# Altium schematic symbol library Resistors.SchLib: 442 symbols (part 2 of 3)
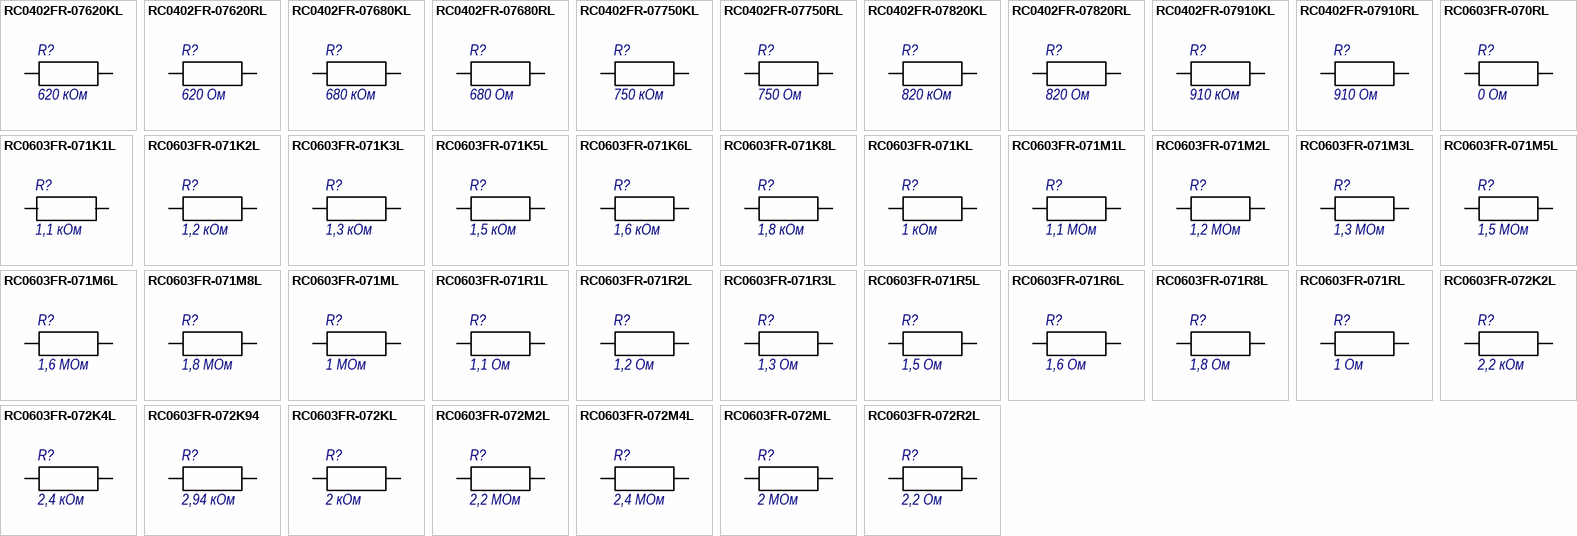
[diagram p12: symbols RC0402FR-07620KL to RC0603FR-072R2L]

## RC0603FR-070RL
designator R?, comment 0 Ом
SMD 0603; 0,1; 1%; 0 Ом; Part Number: RC0603FR-070RL; Manufacturer: Yageo; Power: 0,1; Package: SMD 0603; Persent: 1%; Value: 0 Ом; Category: R
footprint C0603R
pins: 1, 2

## RC0603FR-071K1L
designator R?, comment 1,1 кОм
SMD 0603; 0,1; 1%; 1,1 кОм; Part Number: RC0603FR-071K1L; Manufacturer: Yageo; Power: 0,1; Package: SMD 0603; Persent: 1%; Value: 1,1 кОм; Category: R
footprint C0603R
pins: 1, 2

## RC0603FR-071K2L
designator R?, comment 1,2 кОм
SMD 0603; 0,1; 1%; 1,2 кОм; Part Number: RC0603FR-071K2L; Manufacturer: Yageo; Power: 0,1; Package: SMD 0603; Persent: 1%; Value: 1,2 кОм; Category: R
footprint C0603R
pins: 1, 2

## RC0603FR-071K3L
designator R?, comment 1,3 кОм
SMD 0603; 0,1; 1%; 1,3 кОм; Part Number: RC0603FR-071K3L; Manufacturer: Yageo; Power: 0,1; Package: SMD 0603; Persent: 1%; Value: 1,3 кОм; Category: R
footprint C0603R
pins: 1, 2

## RC0603FR-071K5L
designator R?, comment 1,5 кОм
SMD 0603; 0,1; 1%; 1,5 кОм; Part Number: RC0603FR-071K5L; Manufacturer: Yageo; Power: 0,1; Package: SMD 0603; Persent: 1%; Value: 1,5 кОм; Category: R
footprint C0603R
pins: 1, 2

## RC0603FR-071K6L
designator R?, comment 1,6 кОм
SMD 0603; 0,1; 1%; 1,6 кОм; Part Number: RC0603FR-071K6L; Manufacturer: Yageo; Power: 0,1; Package: SMD 0603; Persent: 1%; Value: 1,6 кОм; Category: R
footprint C0603R
pins: 1, 2

## RC0603FR-071K8L
designator R?, comment 1,8 кОм
SMD 0603; 0,1; 1%; 1,8 кОм; Part Number: RC0603FR-071K8L; Manufacturer: Yageo; Power: 0,1; Package: SMD 0603; Persent: 1%; Value: 1,8 кОм; Category: R
footprint C0603R
pins: 1, 2

## RC0603FR-071KL
designator R?, comment 1 кОм
SMD 0603; 0,1; 1%; 1 кОм; Part Number: RC0603FR-071KL; Manufacturer: Yageo; Power: 0,1; Package: SMD 0603; Persent: 1%; Value: 1 кОм; Category: R
footprint C0603R
pins: 1, 2

## RC0603FR-071M1L
designator R?, comment 1,1 МОм
SMD 0603; 0,1; 1%; 1,1 МОм; Part Number: RC0603FR-071M1L; Manufacturer: Yageo; Power: 0,1; Package: SMD 0603; Persent: 1%; Value: 1,1 МОм; Category: R
footprint C0603R
pins: 1, 2

## RC0603FR-071M2L
designator R?, comment 1,2 МОм
SMD 0603; 0,1; 1%; 1,2 МОм; Part Number: RC0603FR-071M2L; Manufacturer: Yageo; Power: 0,1; Package: SMD 0603; Persent: 1%; Value: 1,2 МОм; Category: R
footprint C0603R
pins: 1, 2

## RC0603FR-071M3L
designator R?, comment 1,3 МОм
SMD 0603; 0,1; 1%; 1,3 МОм; Part Number: RC0603FR-071M3L; Manufacturer: Yageo; Power: 0,1; Package: SMD 0603; Persent: 1%; Value: 1,3 МОм; Category: R
footprint C0603R
pins: 1, 2

## RC0603FR-071M5L
designator R?, comment 1,5 МОм
SMD 0603; 0,1; 1%; 1,5 МОм; Part Number: RC0603FR-071M5L; Manufacturer: Yageo; Power: 0,1; Package: SMD 0603; Persent: 1%; Value: 1,5 МОм; Category: R
footprint C0603R
pins: 1, 2

## RC0603FR-071M6L
designator R?, comment 1,6 МОм
SMD 0603; 0,1; 1%; 1,6 МОм; Part Number: RC0603FR-071M6L; Manufacturer: Yageo; Power: 0,1; Package: SMD 0603; Persent: 1%; Value: 1,6 МОм; Category: R
footprint C0603R
pins: 1, 2

## RC0603FR-071M8L
designator R?, comment 1,8 МОм
SMD 0603; 0,1; 1%; 1,8 МОм; Part Number: RC0603FR-071M8L; Manufacturer: Yageo; Power: 0,1; Package: SMD 0603; Persent: 1%; Value: 1,8 МОм; Category: R
footprint C0603R
pins: 1, 2

## RC0603FR-071ML
designator R?, comment 1 МОм
SMD 0603; 0,1; 1%; 1 МОм; Part Number: RC0603FR-071ML; Manufacturer: Yageo; Power: 0,1; Package: SMD 0603; Persent: 1%; Value: 1 МОм; Category: R
footprint C0603R
pins: 1, 2

## RC0603FR-071R1L
designator R?, comment 1,1 Ом
SMD 0603; 0,1; 1%; 1,1 Ом; Part Number: RC0603FR-071R1L; Manufacturer: Yageo; Power: 0,1; Package: SMD 0603; Persent: 1%; Value: 1,1 Ом; Category: R
footprint C0603R
pins: 1, 2

## RC0603FR-071R2L
designator R?, comment 1,2 Ом
SMD 0603; 0,1; 1%; 1,2 Ом; Part Number: RC0603FR-071R2L; Manufacturer: Yageo; Power: 0,1; Package: SMD 0603; Persent: 1%; Value: 1,2 Ом; Category: R
footprint C0603R
pins: 1, 2

## RC0603FR-071R3L
designator R?, comment 1,3 Ом
SMD 0603; 0,1; 1%; 1,3 Ом; Part Number: RC0603FR-071R3L; Manufacturer: Yageo; Power: 0,1; Package: SMD 0603; Persent: 1%; Value: 1,3 Ом; Category: R
footprint C0603R
pins: 1, 2

## RC0603FR-071R5L
designator R?, comment 1,5 Ом
SMD 0603; 0,1; 1%; 1,5 Ом; Part Number: RC0603FR-071R5L; Manufacturer: Yageo; Power: 0,1; Package: SMD 0603; Persent: 1%; Value: 1,5 Ом; Category: R
footprint C0603R
pins: 1, 2

## RC0603FR-071R6L
designator R?, comment 1,6 Ом
SMD 0603; 0,1; 1%; 1,6 Ом; Part Number: RC0603FR-071R6L; Manufacturer: Yageo; Power: 0,1; Package: SMD 0603; Persent: 1%; Value: 1,6 Ом; Category: R
footprint C0603R
pins: 1, 2

## RC0603FR-071R8L
designator R?, comment 1,8 Ом
SMD 0603; 0,1; 1%; 1,8 Ом; Part Number: RC0603FR-071R8L; Manufacturer: Yageo; Power: 0,1; Package: SMD 0603; Persent: 1%; Value: 1,8 Ом; Category: R
footprint C0603R
pins: 1, 2

## RC0603FR-071RL
designator R?, comment 1 Ом
SMD 0603; 0,1; 1%; 1 Ом; Part Number: RC0603FR-071RL; Manufacturer: Yageo; Power: 0,1; Package: SMD 0603; Persent: 1%; Value: 1 Ом; Category: R
footprint C0603R
pins: 1, 2

## RC0603FR-072K2L
designator R?, comment 2,2 кОм
SMD 0603; 0,1; 1%; 2,2 кОм; Part Number: RC0603FR-072K2L; Manufacturer: Yageo; Power: 0,1; Package: SMD 0603; Persent: 1%; Value: 2,2 кОм; Category: R
footprint C0603R
pins: 1, 2

## RC0603FR-072K4L
designator R?, comment 2,4 кОм
SMD 0603; 0,1; 1%; 2,4 кОм; Part Number: RC0603FR-072K4L; Manufacturer: Yageo; Power: 0,1; Package: SMD 0603; Persent: 1%; Value: 2,4 кОм; Category: R
footprint C0603R
pins: 1, 2

## RC0603FR-072K94
designator R?, comment 2,94 кОм
SMD 0603; 0,1; 1%; 2,94 кОм; Part Number: RC0603FR-072K94; Manufacturer: Yageo; Power: 0,1; Package: SMD 0603; Persent: 1%; Value: 2,94 кОм; Category: R
footprint C0603R
pins: 1, 2

## RC0603FR-072KL
designator R?, comment 2 кОм
SMD 0603; 0,1; 1%; 2 кОм; Part Number: RC0603FR-072KL; Manufacturer: Yageo; Power: 0,1; Package: SMD 0603; Persent: 1%; Value: 2 кОм; Category: R
footprint C0603R
pins: 1, 2

## RC0603FR-072M2L
designator R?, comment 2,2 МОм
SMD 0603; 0,1; 1%; 2,2 МОм; Part Number: RC0603FR-072M2L; Manufacturer: Yageo; Power: 0,1; Package: SMD 0603; Persent: 1%; Value: 2,2 МОм; Category: R
footprint C0603R
pins: 1, 2

## RC0603FR-072M4L
designator R?, comment 2,4 МОм
SMD 0603; 0,1; 1%; 2,4 МОм; Part Number: RC0603FR-072M4L; Manufacturer: Yageo; Power: 0,1; Package: SMD 0603; Persent: 1%; Value: 2,4 МОм; Category: R
footprint C0603R
pins: 1, 2

## RC0603FR-072ML
designator R?, comment 2 МОм
SMD 0603; 0,1; 1%; 2 МОм; Part Number: RC0603FR-072ML; Manufacturer: Yageo; Power: 0,1; Package: SMD 0603; Persent: 1%; Value: 2 МОм; Category: R
footprint C0603R
pins: 1, 2

## RC0603FR-072R2L
designator R?, comment 2,2 Ом
SMD 0603; 0,1; 1%; 2,2 Ом; Part Number: RC0603FR-072R2L; Manufacturer: Yageo; Power: 0,1; Package: SMD 0603; Persent: 1%; Value: 2,2 Ом; Category: R
footprint C0603R
pins: 1, 2

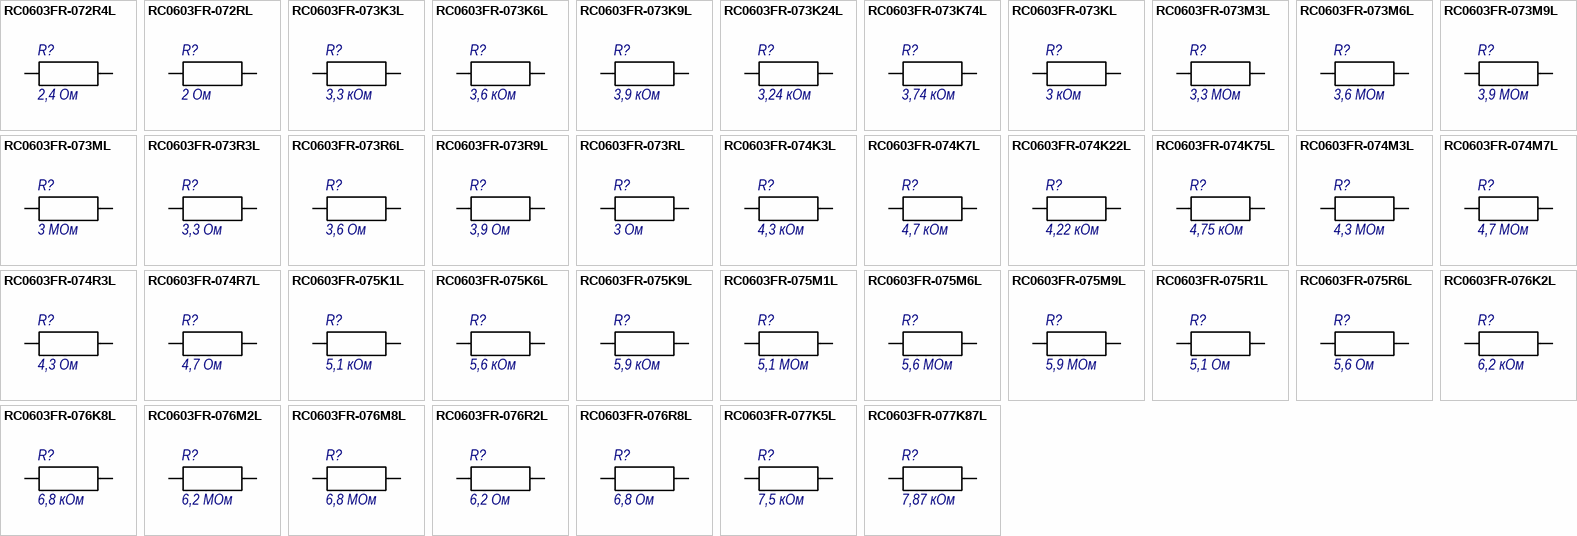
[diagram p6: symbols RC0603FR-072R4L to RC0603FR-077K87L]

## RC0603FR-072R4L
designator R?, comment 2,4 Ом
SMD 0603; 0,1; 1%; 2,4 Ом; Part Number: RC0603FR-072R4L; Manufacturer: Yageo; Power: 0,1; Package: SMD 0603; Persent: 1%; Value: 2,4 Ом; Category: R
footprint C0603R
pins: 1, 2

## RC0603FR-072RL
designator R?, comment 2 Ом
SMD 0603; 0,1; 1%; 2 Ом; Part Number: RC0603FR-072RL; Manufacturer: Yageo; Power: 0,1; Package: SMD 0603; Persent: 1%; Value: 2 Ом; Category: R
footprint C0603R
pins: 1, 2

## RC0603FR-073K3L
designator R?, comment 3,3 кОм
SMD 0603; 0,1; 1%; 3,3 кОм; Part Number: RC0603FR-073K3L; Manufacturer: Yageo; Power: 0,1; Package: SMD 0603; Persent: 1%; Value: 3,3 кОм; Category: R
footprint C0603R
pins: 1, 2

## RC0603FR-073K6L
designator R?, comment 3,6 кОм
SMD 0603; 0,1; 1%; 3,6 кОм; Part Number: RC0603FR-073K6L; Manufacturer: Yageo; Power: 0,1; Package: SMD 0603; Persent: 1%; Value: 3,6 кОм; Category: R
footprint C0603R
pins: 1, 2

## RC0603FR-073K9L
designator R?, comment 3,9 кОм
SMD 0603; 0,1; 1%; 3,9 кОм; Part Number: RC0603FR-073K9L; Manufacturer: Yageo; Power: 0,1; Package: SMD 0603; Persent: 1%; Value: 3,9 кОм; Category: R
footprint C0603R
pins: 1, 2

## RC0603FR-073K24L
designator R?, comment 3,24 кОм
SMD 0603; 0,1; 1%; 3,24 кОм; Part Number: RC0603FR-073K24L; Manufacturer: Yageo; Power: 0,1; Package: SMD 0603; Persent: 1%; Value: 3,24 кОм; Category: R
footprint C0603R
pins: 1, 2

## RC0603FR-073K74L
designator R?, comment 3,74 кОм
SMD 0603; 0,1; 1%; 3,74 кОм; Part Number: RC0603FR-073K74L; Manufacturer: Yageo; Power: 0,1; Package: SMD 0603; Persent: 1%; Value: 3,74 кОм; Category: R
footprint C0603R
pins: 1, 2

## RC0603FR-073KL
designator R?, comment 3 кОм
SMD 0603; 0,1; 1%; 3 кОм; Part Number: RC0603FR-073KL; Manufacturer: Yageo; Power: 0,1; Package: SMD 0603; Persent: 1%; Value: 3 кОм; Category: R
footprint C0603R
pins: 1, 2

## RC0603FR-073M3L
designator R?, comment 3,3 МОм
SMD 0603; 0,1; 1%; 3,3 МОм; Part Number: RC0603FR-073M3L; Manufacturer: Yageo; Power: 0,1; Package: SMD 0603; Persent: 1%; Value: 3,3 МОм; Category: R
footprint C0603R
pins: 1, 2

## RC0603FR-073M6L
designator R?, comment 3,6 МОм
SMD 0603; 0,1; 1%; 3,6 МОм; Part Number: RC0603FR-073M6L; Manufacturer: Yageo; Power: 0,1; Package: SMD 0603; Persent: 1%; Value: 3,6 МОм; Category: R
footprint C0603R
pins: 1, 2

## RC0603FR-073M9L
designator R?, comment 3,9 МОм
SMD 0603; 0,1; 1%; 3,9 МОм; Part Number: RC0603FR-073M9L; Manufacturer: Yageo; Power: 0,1; Package: SMD 0603; Persent: 1%; Value: 3,9 МОм; Category: R
footprint C0603R
pins: 1, 2

## RC0603FR-073ML
designator R?, comment 3 МОм
SMD 0603; 0,1; 1%; 3 МОм; Part Number: RC0603FR-073ML; Manufacturer: Yageo; Power: 0,1; Package: SMD 0603; Persent: 1%; Value: 3 МОм; Category: R
footprint C0603R
pins: 1, 2

## RC0603FR-073R3L
designator R?, comment 3,3 Ом
SMD 0603; 0,1; 1%; 3,3 Ом; Part Number: RC0603FR-073R3L; Manufacturer: Yageo; Power: 0,1; Package: SMD 0603; Persent: 1%; Value: 3,3 Ом; Category: R
footprint C0603R
pins: 1, 2

## RC0603FR-073R6L
designator R?, comment 3,6 Ом
SMD 0603; 0,1; 1%; 3,6 Ом; Part Number: RC0603FR-073R6L; Manufacturer: Yageo; Power: 0,1; Package: SMD 0603; Persent: 1%; Value: 3,6 Ом; Category: R
footprint C0603R
pins: 1, 2

## RC0603FR-073R9L
designator R?, comment 3,9 Ом
SMD 0603; 0,1; 1%; 3,9 Ом; Part Number: RC0603FR-073R9L; Manufacturer: Yageo; Power: 0,1; Package: SMD 0603; Persent: 1%; Value: 3,9 Ом; Category: R
footprint C0603R
pins: 1, 2

## RC0603FR-073RL
designator R?, comment 3 Ом
SMD 0603; 0,1; 1%; 3 Ом; Part Number: RC0603FR-073RL; Manufacturer: Yageo; Power: 0,1; Package: SMD 0603; Persent: 1%; Value: 3 Ом; Category: R
footprint C0603R
pins: 1, 2

## RC0603FR-074K3L
designator R?, comment 4,3 кОм
SMD 0603; 0,1; 1%; 4,3 кОм; Part Number: RC0603FR-074K3L; Manufacturer: Yageo; Power: 0,1; Package: SMD 0603; Persent: 1%; Value: 4,3 кОм; Category: R
footprint C0603R
pins: 1, 2

## RC0603FR-074K7L
designator R?, comment 4,7 кОм
SMD 0603; 0,1; 1%; 4,7 кОм; Part Number: RC0603FR-074K7L; Manufacturer: Yageo; Power: 0,1; Package: SMD 0603; Persent: 1%; Value: 4,7 кОм; Category: R
footprint C0603R
pins: 1, 2

## RC0603FR-074K22L
designator R?, comment 4,22 кОм
SMD 0603; 0,1; 1%; 4,22 кОм; Part Number: RC0603FR-074K22L; Manufacturer: Yageo; Power: 0,1; Package: SMD 0603; Persent: 1%; Value: 4,22 кОм; Category: R
footprint C0603R
pins: 1, 2

## RC0603FR-074K75L
designator R?, comment 4,75 кОм
SMD 0603; 0,1; 1%; 4,75 кОм; Part Number: RC0603FR-074K75L; Manufacturer: Yageo; Power: 0,1; Package: SMD 0603; Persent: 1%; Value: 4,75 кОм; Category: R
footprint C0603R
pins: 1, 2

## RC0603FR-074M3L
designator R?, comment 4,3 МОм
SMD 0603; 0,1; 1%; 4,3 МОм; Part Number: RC0603FR-074M3L; Manufacturer: Yageo; Power: 0,1; Package: SMD 0603; Persent: 1%; Value: 4,3 МОм; Category: R
footprint C0603R
pins: 1, 2

## RC0603FR-074M7L
designator R?, comment 4,7 МОм
SMD 0603; 0,1; 1%; 4,7 МОм; Part Number: RC0603FR-074M7L; Manufacturer: Yageo; Power: 0,1; Package: SMD 0603; Persent: 1%; Value: 4,7 МОм; Category: R
footprint C0603R
pins: 1, 2

## RC0603FR-074R3L
designator R?, comment 4,3 Ом
SMD 0603; 0,1; 1%; 4,3 Ом; Part Number: RC0603FR-074R3L; Manufacturer: Yageo; Power: 0,1; Package: SMD 0603; Persent: 1%; Value: 4,3 Ом; Category: R
footprint C0603R
pins: 1, 2

## RC0603FR-074R7L
designator R?, comment 4,7 Ом
SMD 0603; 0,1; 1%; 4,7 Ом; Part Number: RC0603FR-074R7L; Manufacturer: Yageo; Power: 0,1; Package: SMD 0603; Persent: 1%; Value: 4,7 Ом; Category: R
footprint C0603R
pins: 1, 2

## RC0603FR-075K1L
designator R?, comment 5,1 кОм
SMD 0603; 0,1; 1%; 5,1 кОм; Part Number: RC0603FR-075K1L; Manufacturer: Yageo; Power: 0,1; Package: SMD 0603; Persent: 1%; Value: 5,1 кОм; Category: R
footprint C0603R
pins: 1, 2

## RC0603FR-075K6L
designator R?, comment 5,6 кОм
SMD 0603; 0,1; 1%; 5,6 кОм; Part Number: RC0603FR-075K6L; Manufacturer: Yageo; Power: 0,1; Package: SMD 0603; Persent: 1%; Value: 5,6 кОм; Category: R
footprint C0603R
pins: 1, 2

## RC0603FR-075K9L
designator R?, comment 5,9 кОм
SMD 0603; 0,1; 1%; 5,9 кОм; Part Number: RC0603FR-075K9L; Manufacturer: Yageo; Power: 0,1; Package: SMD 0603; Persent: 1%; Value: 5,9 кОм; Category: R
footprint C0603R
pins: 1, 2

## RC0603FR-075M1L
designator R?, comment 5,1 МОм
SMD 0603; 0,1; 1%; 5,1 МОм; Part Number: RC0603FR-075M1L; Manufacturer: Yageo; Power: 0,1; Package: SMD 0603; Persent: 1%; Value: 5,1 МОм; Category: R
footprint C0603R
pins: 1, 2

## RC0603FR-075M6L
designator R?, comment 5,6 МОм
SMD 0603; 0,1; 1%; 5,6 МОм; Part Number: RC0603FR-075M6L; Manufacturer: Yageo; Power: 0,1; Package: SMD 0603; Persent: 1%; Value: 5,6 МОм; Category: R
footprint C0603R
pins: 1, 2

## RC0603FR-075M9L
designator R?, comment 5,9 МОм
SMD 0603; 0,1; 1%; 5,9 МОм; Part Number: RC0603FR-075M9L; Manufacturer: Yageo; Power: 0,1; Package: SMD 0603; Persent: 1%; Value: 5,9 МОм; Category: R
footprint C0603R
pins: 1, 2

## RC0603FR-075R1L
designator R?, comment 5,1 Ом
SMD 0603; 0,1; 1%; 5,1 Ом; Part Number: RC0603FR-075R1L; Manufacturer: Yageo; Power: 0,1; Package: SMD 0603; Persent: 1%; Value: 5,1 Ом; Category: R
footprint C0603R
pins: 1, 2

## RC0603FR-075R6L
designator R?, comment 5,6 Ом
SMD 0603; 0,1; 1%; 5,6 Ом; Part Number: RC0603FR-075R6L; Manufacturer: Yageo; Power: 0,1; Package: SMD 0603; Persent: 1%; Value: 5,6 Ом; Category: R
footprint C0603R
pins: 1, 2

## RC0603FR-076K2L
designator R?, comment 6,2 кОм
SMD 0603; 0,1; 1%; 6,2 кОм; Part Number: RC0603FR-076K2L; Manufacturer: Yageo; Power: 0,1; Package: SMD 0603; Persent: 1%; Value: 6,2 кОм; Category: R
footprint C0603R
pins: 1, 2

## RC0603FR-076K8L
designator R?, comment 6,8 кОм
SMD 0603; 0,1; 1%; 6,8 кОм; Part Number: RC0603FR-076K8L; Manufacturer: Yageo; Power: 0,1; Package: SMD 0603; Persent: 1%; Value: 6,8 кОм; Category: R
footprint C0603R
pins: 1, 2

## RC0603FR-076M2L
designator R?, comment 6,2 МОм
SMD 0603; 0,1; 1%; 6,2 МОм; Part Number: RC0603FR-076M2L; Manufacturer: Yageo; Power: 0,1; Package: SMD 0603; Persent: 1%; Value: 6,2 МОм; Category: R
footprint C0603R
pins: 1, 2

## RC0603FR-076M8L
designator R?, comment 6,8 МОм
SMD 0603; 0,1; 1%; 6,8 МОм; Part Number: RC0603FR-076M8L; Manufacturer: Yageo; Power: 0,1; Package: SMD 0603; Persent: 1%; Value: 6,8 МОм; Category: R
footprint C0603R
pins: 1, 2

## RC0603FR-076R2L
designator R?, comment 6,2 Ом
SMD 0603; 0,1; 1%; 6,2 Ом; Part Number: RC0603FR-076R2L; Manufacturer: Yageo; Power: 0,1; Package: SMD 0603; Persent: 1%; Value: 6,2 Ом; Category: R
footprint C0603R
pins: 1, 2

## RC0603FR-076R8L
designator R?, comment 6,8 Ом
SMD 0603; 0,1; 1%; 6,8 Ом; Part Number: RC0603FR-076R8L; Manufacturer: Yageo; Power: 0,1; Package: SMD 0603; Persent: 1%; Value: 6,8 Ом; Category: R
footprint C0603R
pins: 1, 2

## RC0603FR-077K5L
designator R?, comment 7,5 кОм
SMD 0603; 0,1; 1%; 7,5 кОм; Part Number: RC0603FR-077K5L; Manufacturer: Yageo; Power: 0,1; Package: SMD 0603; Persent: 1%; Value: 7,5 кОм; Category: R
footprint C0603R
pins: 1, 2

## RC0603FR-077K87L
designator R?, comment 7,87 кОм
SMD 0603; 0,1; 1%; 7,87 кОм; Part Number: RC0603FR-077K87L; Manufacturer: Yageo; Power: 0,1; Package: SMD 0603; Persent: 1%; Value: 7,87 кОм; Category: R
footprint C0603R
pins: 1, 2

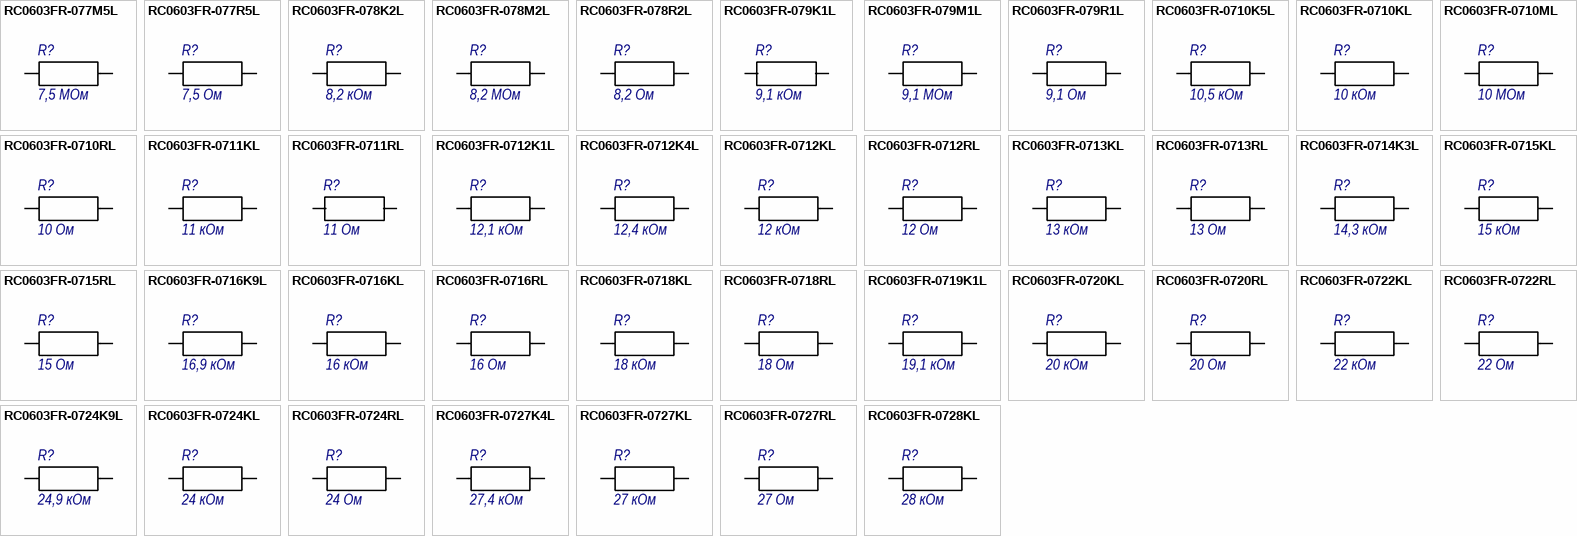
[diagram p7: symbols RC0603FR-077M5L to RC0603FR-0728KL]

## RC0603FR-077M5L
designator R?, comment 7,5 МОм
SMD 0603; 0,1; 1%; 7,5 МОм; Part Number: RC0603FR-077M5L; Manufacturer: Yageo; Power: 0,1; Package: SMD 0603; Persent: 1%; Value: 7,5 МОм; Category: R
footprint C0603R
pins: 1, 2

## RC0603FR-077R5L
designator R?, comment 7,5 Ом
SMD 0603; 0,1; 1%; 7,5 Ом; Part Number: RC0603FR-077R5L; Manufacturer: Yageo; Power: 0,1; Package: SMD 0603; Persent: 1%; Value: 7,5 Ом; Category: R
footprint C0603R
pins: 1, 2

## RC0603FR-078K2L
designator R?, comment 8,2 кОм
SMD 0603; 0,1; 1%; 8,2 кОм; Part Number: RC0603FR-078K2L; Manufacturer: Yageo; Power: 0,1; Package: SMD 0603; Persent: 1%; Value: 8,2 кОм; Category: R
footprint C0603R
pins: 1, 2

## RC0603FR-078M2L
designator R?, comment 8,2 МОм
SMD 0603; 0,1; 1%; 8,2 МОм; Part Number: RC0603FR-078M2L; Manufacturer: Yageo; Power: 0,1; Package: SMD 0603; Persent: 1%; Value: 8,2 МОм; Category: R
footprint C0603R
pins: 1, 2

## RC0603FR-078R2L
designator R?, comment 8,2 Ом
SMD 0603; 0,1; 1%; 8,2 Ом; Part Number: RC0603FR-078R2L; Manufacturer: Yageo; Power: 0,1; Package: SMD 0603; Persent: 1%; Value: 8,2 Ом; Category: R
footprint C0603R
pins: 1, 2

## RC0603FR-079K1L
designator R?, comment 9,1 кОм
SMD 0603; 0,1; 1%; 9,1 кОм; Part Number: RC0603FR-079K1L; Manufacturer: Yageo; Power: 0,1; Package: SMD 0603; Persent: 1%; Value: 9,1 кОм; Category: R
footprint C0603R
pins: 1, 2

## RC0603FR-079M1L
designator R?, comment 9,1 МОм
SMD 0603; 0,1; 1%; 9,1 МОм; Part Number: RC0603FR-079M1L; Manufacturer: Yageo; Power: 0,1; Package: SMD 0603; Persent: 1%; Value: 9,1 МОм; Category: R
footprint C0603R
pins: 1, 2

## RC0603FR-079R1L
designator R?, comment 9,1 Ом
SMD 0603; 0,1; 1%; 9,1 Ом; Part Number: RC0603FR-079R1L; Manufacturer: Yageo; Power: 0,1; Package: SMD 0603; Persent: 1%; Value: 9,1 Ом; Category: R
footprint C0603R
pins: 1, 2

## RC0603FR-0710K5L
designator R?, comment 10,5 кОм
SMD 0603; 0,1; 1%; 10,5 кОм; Part Number: RC0603FR-0710K5L; Manufacturer: Yageo; Power: 0,1; Package: SMD 0603; Persent: 1%; Value: 10,5 кОм; Category: R
footprint C0603R
pins: 1, 2

## RC0603FR-0710KL
designator R?, comment 10 кОм
SMD 0603; 0,1; 1%; 10 кОм; Part Number: RC0603FR-0710KL; Manufacturer: Yageo; Power: 0,1; Package: SMD 0603; Persent: 1%; Value: 10 кОм; Category: R
footprint C0603R
pins: 1, 2

## RC0603FR-0710ML
designator R?, comment 10 МОм
SMD 0603; 0,1; 1%; 10 МОм; Part Number: RC0603FR-0710ML; Manufacturer: Yageo; Power: 0,1; Package: SMD 0603; Persent: 1%; Value: 10 МОм; Category: R
footprint C0603R
pins: 1, 2

## RC0603FR-0710RL
designator R?, comment 10 Ом
SMD 0603; 0,1; 1%; 10 Ом; Part Number: RC0603FR-0710RL; Manufacturer: Yageo; Power: 0,1; Package: SMD 0603; Persent: 1%; Value: 10 Ом; Category: R
footprint C0603R
pins: 1, 2

## RC0603FR-0711KL
designator R?, comment 11 кОм
SMD 0603; 0,1; 1%; 11 кОм; Part Number: RC0603FR-0711KL; Manufacturer: Yageo; Power: 0,1; Package: SMD 0603; Persent: 1%; Value: 11 кОм; Category: R
footprint C0603R
pins: 1, 2

## RC0603FR-0711RL
designator R?, comment 11 Ом
SMD 0603; 0,1; 1%; 11 Ом; Part Number: RC0603FR-0711RL; Manufacturer: Yageo; Power: 0,1; Package: SMD 0603; Persent: 1%; Value: 11 Ом; Category: R
footprint C0603R
pins: 1, 2

## RC0603FR-0712K1L
designator R?, comment 12,1 кОм
SMD 0603; 0,1; 1%; 12,1 кОм; Part Number: RC0603FR-0712K1L; Manufacturer: Yageo; Power: 0,1; Package: SMD 0603; Persent: 1%; Value: 12,1 кОм; Category: R
footprint C0603R
pins: 1, 2

## RC0603FR-0712K4L
designator R?, comment 12,4 кОм
SMD 0603; 0,1; 1%; 12,4 кОм; Part Number: RC0603FR-0712K4L; Manufacturer: Yageo; Power: 0,1; Package: SMD 0603; Persent: 1%; Value: 12,4 кОм; Category: R
footprint C0603R
pins: 1, 2

## RC0603FR-0712KL
designator R?, comment 12 кОм
SMD 0603; 0,1; 1%; 12 кОм; Part Number: RC0603FR-0712KL; Manufacturer: Yageo; Power: 0,1; Package: SMD 0603; Persent: 1%; Value: 12 кОм; Category: R
footprint C0603R
pins: 1, 2

## RC0603FR-0712RL
designator R?, comment 12 Ом
SMD 0603; 0,1; 1%; 12 Ом; Part Number: RC0603FR-0712RL; Manufacturer: Yageo; Power: 0,1; Package: SMD 0603; Persent: 1%; Value: 12 Ом; Category: R
footprint C0603R
pins: 1, 2

## RC0603FR-0713KL
designator R?, comment 13 кОм
SMD 0603; 0,1; 1%; 13 кОм; Part Number: RC0603FR-0713KL; Manufacturer: Yageo; Power: 0,1; Package: SMD 0603; Persent: 1%; Value: 13 кОм; Category: R
footprint C0603R
pins: 1, 2

## RC0603FR-0713RL
designator R?, comment 13 Ом
SMD 0603; 0,1; 1%; 13 Ом; Part Number: RC0603FR-0713RL; Manufacturer: Yageo; Power: 0,1; Package: SMD 0603; Persent: 1%; Value: 13 Ом; Category: R
footprint C0603R
pins: 1, 2

## RC0603FR-0714K3L
designator R?, comment 14,3 кОм
SMD 0603; 0,1; 1%; 14,3 кОм; Part Number: RC0603FR-0714K3L; Manufacturer: Yageo; Power: 0,1; Package: SMD 0603; Persent: 1%; Value: 14,3 кОм; Category: R
footprint C0603R
pins: 1, 2

## RC0603FR-0715KL
designator R?, comment 15 кОм
SMD 0603; 0,1; 1%; 15 кОм; Part Number: RC0603FR-0715KL; Manufacturer: Yageo; Power: 0,1; Package: SMD 0603; Persent: 1%; Value: 15 кОм; Category: R
footprint C0603R
pins: 1, 2

## RC0603FR-0715RL
designator R?, comment 15 Ом
SMD 0603; 0,1; 1%; 15 Ом; Part Number: RC0603FR-0715RL; Manufacturer: Yageo; Power: 0,1; Package: SMD 0603; Persent: 1%; Value: 15 Ом; Category: R
footprint C0603R
pins: 1, 2

## RC0603FR-0716K9L
designator R?, comment 16,9 кОм
SMD 0603; 0,1; 1%; 16,9 кОм; Part Number: RC0603FR-0716K9L; Manufacturer: Yageo; Power: 0,1; Package: SMD 0603; Persent: 1%; Value: 16,9 кОм; Category: R
footprint C0603R
pins: 1, 2

## RC0603FR-0716KL
designator R?, comment 16 кОм
SMD 0603; 0,1; 1%; 16 кОм; Part Number: RC0603FR-0716KL; Manufacturer: Yageo; Power: 0,1; Package: SMD 0603; Persent: 1%; Value: 16 кОм; Category: R
footprint C0603R
pins: 1, 2

## RC0603FR-0716RL
designator R?, comment 16 Ом
SMD 0603; 0,1; 1%; 16 Ом; Part Number: RC0603FR-0716RL; Manufacturer: Yageo; Power: 0,1; Package: SMD 0603; Persent: 1%; Value: 16 Ом; Category: R
footprint C0603R
pins: 1, 2

## RC0603FR-0718KL
designator R?, comment 18 кОм
SMD 0603; 0,1; 1%; 18 кОм; Part Number: RC0603FR-0718KL; Manufacturer: Yageo; Power: 0,1; Package: SMD 0603; Persent: 1%; Value: 18 кОм; Category: R
footprint C0603R
pins: 1, 2

## RC0603FR-0718RL
designator R?, comment 18 Ом
SMD 0603; 0,1; 1%; 18 Ом; Part Number: RC0603FR-0718RL; Manufacturer: Yageo; Power: 0,1; Package: SMD 0603; Persent: 1%; Value: 18 Ом; Category: R
footprint C0603R
pins: 1, 2

## RC0603FR-0719K1L
designator R?, comment 19,1 кОм
SMD 0603; 0,1; 1%; 19,1 кОм; Part Number: RC0603FR-0719K1L; Manufacturer: Yageo; Power: 0,1; Package: SMD 0603; Persent: 1%; Value: 19,1 кОм; Category: R
footprint C0603R
pins: 1, 2

## RC0603FR-0720KL
designator R?, comment 20 кОм
SMD 0603; 0,1; 1%; 20 кОм; Part Number: RC0603FR-0720KL; Manufacturer: Yageo; Power: 0,1; Package: SMD 0603; Persent: 1%; Value: 20 кОм; Category: R
footprint C0603R
pins: 1, 2

## RC0603FR-0720RL
designator R?, comment 20 Ом
SMD 0603; 0,1; 1%; 20 Ом; Part Number: RC0603FR-0720RL; Manufacturer: Yageo; Power: 0,1; Package: SMD 0603; Persent: 1%; Value: 20 Ом; Category: R
footprint C0603R
pins: 1, 2

## RC0603FR-0722KL
designator R?, comment 22 кОм
SMD 0603; 0,1; 1%; 22 кОм; Part Number: RC0603FR-0722KL; Manufacturer: Yageo; Power: 0,1; Package: SMD 0603; Persent: 1%; Value: 22 кОм; Category: R
footprint C0603R
pins: 1, 2

## RC0603FR-0722RL
designator R?, comment 22 Ом
SMD 0603; 0,1; 1%; 22 Ом; Part Number: RC0603FR-0722RL; Manufacturer: Yageo; Power: 0,1; Package: SMD 0603; Persent: 1%; Value: 22 Ом; Category: R
footprint C0603R
pins: 1, 2

## RC0603FR-0724K9L
designator R?, comment 24,9 кОм
SMD 0603; 0,1; 1%; 24,9 кОм; Part Number: RC0603FR-0724K9L; Manufacturer: Yageo; Power: 0,1; Package: SMD 0603; Persent: 1%; Value: 24,9 кОм; Category: R
footprint C0603R
pins: 1, 2

## RC0603FR-0724KL
designator R?, comment 24 кОм
SMD 0603; 0,1; 1%; 24 кОм; Part Number: RC0603FR-0724KL; Manufacturer: Yageo; Power: 0,1; Package: SMD 0603; Persent: 1%; Value: 24 кОм; Category: R
footprint C0603R
pins: 1, 2

## RC0603FR-0724RL
designator R?, comment 24 Ом
SMD 0603; 0,1; 1%; 24 Ом; Part Number: RC0603FR-0724RL; Manufacturer: Yageo; Power: 0,1; Package: SMD 0603; Persent: 1%; Value: 24 Ом; Category: R
footprint C0603R
pins: 1, 2

## RC0603FR-0727K4L
designator R?, comment 27,4 кОм
SMD 0603; 0,1; 1%; 27,4 кОм; Part Number: RC0603FR-0727K4L; Manufacturer: Yageo; Power: 0,1; Package: SMD 0603; Persent: 1%; Value: 27,4 кОм; Category: R
footprint C0603R
pins: 1, 2

## RC0603FR-0727KL
designator R?, comment 27 кОм
SMD 0603; 0,1; 1%; 27 кОм; Part Number: RC0603FR-0727KL; Manufacturer: Yageo; Power: 0,1; Package: SMD 0603; Persent: 1%; Value: 27 кОм; Category: R
footprint C0603R
pins: 1, 2

## RC0603FR-0727RL
designator R?, comment 27 Ом
SMD 0603; 0,1; 1%; 27 Ом; Part Number: RC0603FR-0727RL; Manufacturer: Yageo; Power: 0,1; Package: SMD 0603; Persent: 1%; Value: 27 Ом; Category: R
footprint C0603R
pins: 1, 2

## RC0603FR-0728KL
designator R?, comment 28 кОм
SMD 0603; 0,1; 1%; 28 кОм; Part Number: RC0603FR-0728KL; Manufacturer: Yageo; Power: 0,1; Package: SMD 0603; Persent: 1%; Value: 28 кОм; Category: R
footprint C0603R
pins: 1, 2

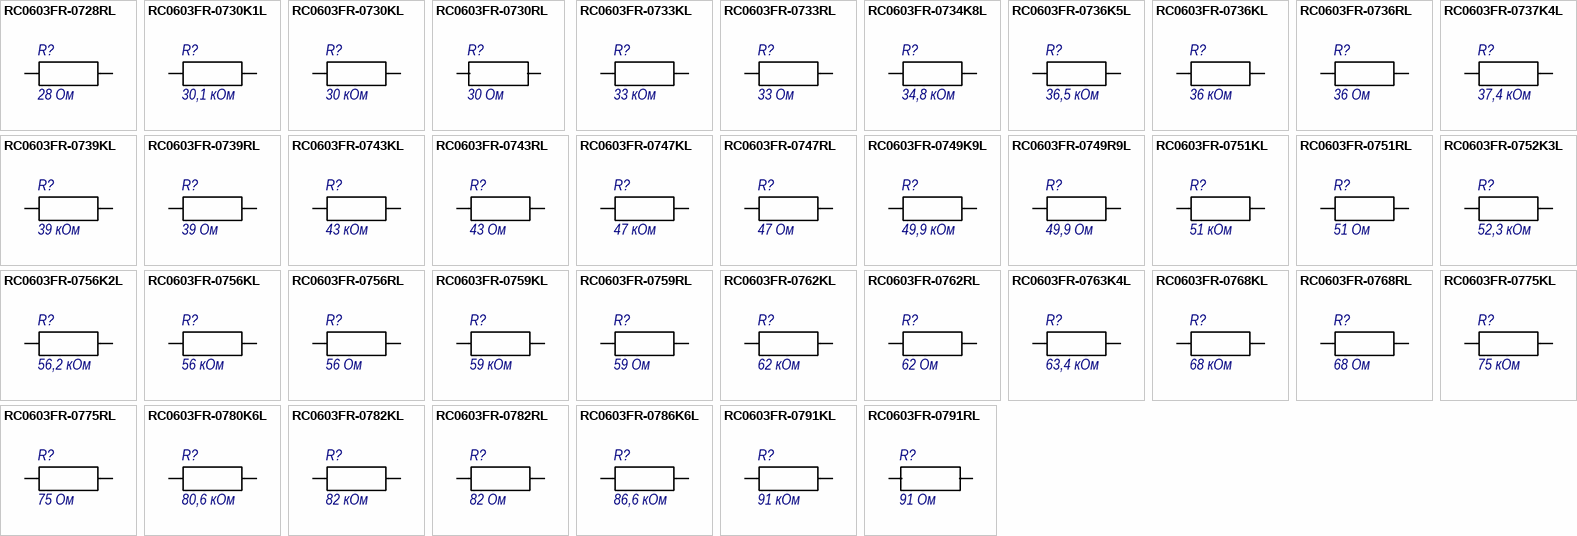
[diagram p8: symbols RC0603FR-0728RL to RC0603FR-0791RL]

## RC0603FR-0728RL
designator R?, comment 28 Ом
SMD 0603; 0,1; 1%; 28 Ом; Part Number: RC0603FR-0728RL; Manufacturer: Yageo; Power: 0,1; Package: SMD 0603; Persent: 1%; Value: 28 Ом; Category: R
footprint C0603R
pins: 1, 2

## RC0603FR-0730K1L
designator R?, comment 30,1 кОм
SMD 0603; 0,1; 1%; 30,1 кОм; Part Number: RC0603FR-0730K1L; Manufacturer: Yageo; Power: 0,1; Package: SMD 0603; Persent: 1%; Value: 30,1 кОм; Category: R
footprint C0603R
pins: 1, 2

## RC0603FR-0730KL
designator R?, comment 30 кОм
SMD 0603; 0,1; 1%; 30 кОм; Part Number: RC0603FR-0730KL; Manufacturer: Yageo; Power: 0,1; Package: SMD 0603; Persent: 1%; Value: 30 кОм; Category: R
footprint C0603R
pins: 1, 2

## RC0603FR-0730RL
designator R?, comment 30 Ом
SMD 0603; 0,1; 1%; 30 Ом; Part Number: RC0603FR-0730RL; Manufacturer: Yageo; Power: 0,1; Package: SMD 0603; Persent: 1%; Value: 30 Ом; Category: R
footprint C0603R
pins: 1, 2

## RC0603FR-0733KL
designator R?, comment 33 кОм
SMD 0603; 0,1; 1%; 33 кОм; Part Number: RC0603FR-0733KL; Manufacturer: Yageo; Power: 0,1; Package: SMD 0603; Persent: 1%; Value: 33 кОм; Category: R
footprint C0603R
pins: 1, 2

## RC0603FR-0733RL
designator R?, comment 33 Ом
SMD 0603; 0,1; 1%; 33 Ом; Part Number: RC0603FR-0733RL; Manufacturer: Yageo; Power: 0,1; Package: SMD 0603; Persent: 1%; Value: 33 Ом; Category: R
footprint C0603R
pins: 1, 2

## RC0603FR-0734K8L
designator R?, comment 34,8 кОм
SMD 0603; 0,1; 1%; 34,8 кОм; Part Number: RC0603FR-0734K8L; Manufacturer: Yageo; Power: 0,1; Package: SMD 0603; Persent: 1%; Value: 34,8 кОм; Category: R
footprint C0603R
pins: 1, 2

## RC0603FR-0736K5L
designator R?, comment 36,5 кОм
SMD 0603; 0,1; 1%; 36,5 кОм; Part Number: RC0603FR-0736K5L; Manufacturer: Yageo; Power: 0,1; Package: SMD 0603; Persent: 1%; Value: 36,5 кОм; Category: R
footprint C0603R
pins: 1, 2

## RC0603FR-0736KL
designator R?, comment 36 кОм
SMD 0603; 0,1; 1%; 36 кОм; Part Number: RC0603FR-0736KL; Manufacturer: Yageo; Power: 0,1; Package: SMD 0603; Persent: 1%; Value: 36 кОм; Category: R
footprint C0603R
pins: 1, 2

## RC0603FR-0736RL
designator R?, comment 36 Ом
SMD 0603; 0,1; 1%; 36 Ом; Part Number: RC0603FR-0736RL; Manufacturer: Yageo; Power: 0,1; Package: SMD 0603; Persent: 1%; Value: 36 Ом; Category: R
footprint C0603R
pins: 1, 2

## RC0603FR-0737K4L
designator R?, comment 37,4 кОм
SMD 0603; 0,1; 1%; 37,4 кОм; Part Number: RC0603FR-0737K4L; Manufacturer: Yageo; Power: 0,1; Package: SMD 0603; Persent: 1%; Value: 37,4 кОм; Category: R
footprint C0603R
pins: 1, 2

## RC0603FR-0739KL
designator R?, comment 39 кОм
SMD 0603; 0,1; 1%; 39 кОм; Part Number: RC0603FR-0739KL; Manufacturer: Yageo; Power: 0,1; Package: SMD 0603; Persent: 1%; Value: 39 кОм; Category: R
footprint C0603R
pins: 1, 2

## RC0603FR-0739RL
designator R?, comment 39 Ом
SMD 0603; 0,1; 1%; 39 Ом; Part Number: RC0603FR-0739RL; Manufacturer: Yageo; Power: 0,1; Package: SMD 0603; Persent: 1%; Value: 39 Ом; Category: R
footprint C0603R
pins: 1, 2

## RC0603FR-0743KL
designator R?, comment 43 кОм
SMD 0603; 0,1; 1%; 43 кОм; Part Number: RC0603FR-0743KL; Manufacturer: Yageo; Power: 0,1; Package: SMD 0603; Persent: 1%; Value: 43 кОм; Category: R
footprint C0603R
pins: 1, 2

## RC0603FR-0743RL
designator R?, comment 43 Ом
SMD 0603; 0,1; 1%; 43 Ом; Part Number: RC0603FR-0743RL; Manufacturer: Yageo; Power: 0,1; Package: SMD 0603; Persent: 1%; Value: 43 Ом; Category: R
footprint C0603R
pins: 1, 2

## RC0603FR-0747KL
designator R?, comment 47 кОм
SMD 0603; 0,1; 1%; 47 кОм; Part Number: RC0603FR-0747KL; Manufacturer: Yageo; Power: 0,1; Package: SMD 0603; Persent: 1%; Value: 47 кОм; Category: R
footprint C0603R
pins: 1, 2

## RC0603FR-0747RL
designator R?, comment 47 Ом
SMD 0603; 0,1; 1%; 47 Ом; Part Number: RC0603FR-0747RL; Manufacturer: Yageo; Power: 0,1; Package: SMD 0603; Persent: 1%; Value: 47 Ом; Category: R
footprint C0603R
pins: 1, 2

## RC0603FR-0749K9L
designator R?, comment 49,9 кОм
SMD 0603; 0,1; 1%; 49,9 кОм; Part Number: RC0603FR-0749K9L; Manufacturer: Yageo; Power: 0,1; Package: SMD 0603; Persent: 1%; Value: 49,9 кОм; Category: R
footprint C0603R
pins: 1, 2

## RC0603FR-0749R9L
designator R?, comment 49,9 Ом
SMD 0603; 0,1; 1%; 49,9 Ом; Part Number: RC0603FR-0749R9L; Manufacturer: Yageo; Power: 0,1; Package: SMD 0603; Persent: 1%; Value: 49,9 Ом; Category: R
footprint C0603R
pins: 1, 2

## RC0603FR-0751KL
designator R?, comment 51 кОм
SMD 0603; 0,1; 1%; 51 кОм; Part Number: RC0603FR-0751KL; Manufacturer: Yageo; Power: 0,1; Package: SMD 0603; Persent: 1%; Value: 51 кОм; Category: R
footprint C0603R
pins: 1, 2

## RC0603FR-0751RL
designator R?, comment 51 Ом
SMD 0603; 0,1; 1%; 51 Ом; Part Number: RC0603FR-0751RL; Manufacturer: Yageo; Power: 0,1; Package: SMD 0603; Persent: 1%; Value: 51 Ом; Category: R
footprint C0603R
pins: 1, 2

## RC0603FR-0752K3L
designator R?, comment 52,3 кОм
SMD 0603; 0,1; 1%; 52,3 кОм; Part Number: RC0603FR-0752K3L; Manufacturer: Yageo; Power: 0,1; Package: SMD 0603; Persent: 1%; Value: 52,3 кОм; Category: R
footprint C0603R
pins: 1, 2

## RC0603FR-0756K2L
designator R?, comment 56,2 кОм
SMD 0603; 0,1; 1%; 56,2 кОм; Part Number: RC0603FR-0756K2L; Manufacturer: Yageo; Power: 0,1; Package: SMD 0603; Persent: 1%; Value: 56,2 кОм; Category: R
footprint C0603R
pins: 1, 2

## RC0603FR-0756KL
designator R?, comment 56 кОм
SMD 0603; 0,1; 1%; 56 кОм; Part Number: RC0603FR-0756KL; Manufacturer: Yageo; Power: 0,1; Package: SMD 0603; Persent: 1%; Value: 56 кОм; Category: R
footprint C0603R
pins: 1, 2

## RC0603FR-0756RL
designator R?, comment 56 Ом
SMD 0603; 0,1; 1%; 56 Ом; Part Number: RC0603FR-0756RL; Manufacturer: Yageo; Power: 0,1; Package: SMD 0603; Persent: 1%; Value: 56 Ом; Category: R
footprint C0603R
pins: 1, 2

## RC0603FR-0759KL
designator R?, comment 59 кОм
SMD 0603; 0,1; 1%; 59 кОм; Part Number: RC0603FR-0759KL; Manufacturer: Yageo; Power: 0,1; Package: SMD 0603; Persent: 1%; Value: 59 кОм; Category: R
footprint C0603R
pins: 1, 2

## RC0603FR-0759RL
designator R?, comment 59 Ом
SMD 0603; 0,1; 1%; 59 Ом; Part Number: RC0603FR-0759RL; Manufacturer: Yageo; Power: 0,1; Package: SMD 0603; Persent: 1%; Value: 59 Ом; Category: R
footprint C0603R
pins: 1, 2

## RC0603FR-0762KL
designator R?, comment 62 кОм
SMD 0603; 0,1; 1%; 62 кОм; Part Number: RC0603FR-0762KL; Manufacturer: Yageo; Power: 0,1; Package: SMD 0603; Persent: 1%; Value: 62 кОм; Category: R
footprint C0603R
pins: 1, 2

## RC0603FR-0762RL
designator R?, comment 62 Ом
SMD 0603; 0,1; 1%; 62 Ом; Part Number: RC0603FR-0762RL; Manufacturer: Yageo; Power: 0,1; Package: SMD 0603; Persent: 1%; Value: 62 Ом; Category: R
footprint C0603R
pins: 1, 2

## RC0603FR-0763K4L
designator R?, comment 63,4 кОм
SMD 0603; 0,1; 1%; 63,4 кОм; Part Number: RC0603FR-0763K4L; Manufacturer: Yageo; Power: 0,1; Package: SMD 0603; Persent: 1%; Value: 63,4 кОм; Category: R
footprint C0603R
pins: 1, 2

## RC0603FR-0768KL
designator R?, comment 68 кОм
SMD 0603; 0,1; 1%; 68 кОм; Part Number: RC0603FR-0768KL; Manufacturer: Yageo; Power: 0,1; Package: SMD 0603; Persent: 1%; Value: 68 кОм; Category: R
footprint C0603R
pins: 1, 2

## RC0603FR-0768RL
designator R?, comment 68 Ом
SMD 0603; 0,1; 1%; 68 Ом; Part Number: RC0603FR-0768RL; Manufacturer: Yageo; Power: 0,1; Package: SMD 0603; Persent: 1%; Value: 68 Ом; Category: R
footprint C0603R
pins: 1, 2

## RC0603FR-0775KL
designator R?, comment 75 кОм
SMD 0603; 0,1; 1%; 75 кОм; Part Number: RC0603FR-0775KL; Manufacturer: Yageo; Power: 0,1; Package: SMD 0603; Persent: 1%; Value: 75 кОм; Category: R
footprint C0603R
pins: 1, 2

## RC0603FR-0775RL
designator R?, comment 75 Ом
SMD 0603; 0,1; 1%; 75 Ом; Part Number: RC0603FR-0775RL; Manufacturer: Yageo; Power: 0,1; Package: SMD 0603; Persent: 1%; Value: 75 Ом; Category: R
footprint C0603R
pins: 1, 2

## RC0603FR-0780K6L
designator R?, comment 80,6 кОм
SMD 0603; 0,1; 1%; 80,6 кОм; Part Number: RC0603FR-0780K6L; Manufacturer: Yageo; Power: 0,1; Package: SMD 0603; Persent: 1%; Value: 80,6 кОм; Category: R
footprint C0603R
pins: 1, 2

## RC0603FR-0782KL
designator R?, comment 82 кОм
SMD 0603; 0,1; 1%; 82 кОм; Part Number: RC0603FR-0782KL; Manufacturer: Yageo; Power: 0,1; Package: SMD 0603; Persent: 1%; Value: 82 кОм; Category: R
footprint C0603R
pins: 1, 2

## RC0603FR-0782RL
designator R?, comment 82 Ом
SMD 0603; 0,1; 1%; 82 Ом; Part Number: RC0603FR-0782RL; Manufacturer: Yageo; Power: 0,1; Package: SMD 0603; Persent: 1%; Value: 82 Ом; Category: R
footprint C0603R
pins: 1, 2

## RC0603FR-0786K6L
designator R?, comment 86,6 кОм
SMD 0603; 0,1; 1%; 86,6 кОм; Part Number: RC0603FR-0786K6L; Manufacturer: Yageo; Power: 0,1; Package: SMD 0603; Persent: 1%; Value: 86,6 кОм; Category: R
footprint C0603R
pins: 1, 2

## RC0603FR-0791KL
designator R?, comment 91 кОм
SMD 0603; 0,1; 1%; 91 кОм; Part Number: RC0603FR-0791KL; Manufacturer: Yageo; Power: 0,1; Package: SMD 0603; Persent: 1%; Value: 91 кОм; Category: R
footprint C0603R
pins: 1, 2

## RC0603FR-0791RL
designator R?, comment 91 Ом
SMD 0603; 0,1; 1%; 91 Ом; Part Number: RC0603FR-0791RL; Manufacturer: Yageo; Power: 0,1; Package: SMD 0603; Persent: 1%; Value: 91 Ом; Category: R
footprint C0603R
pins: 1, 2

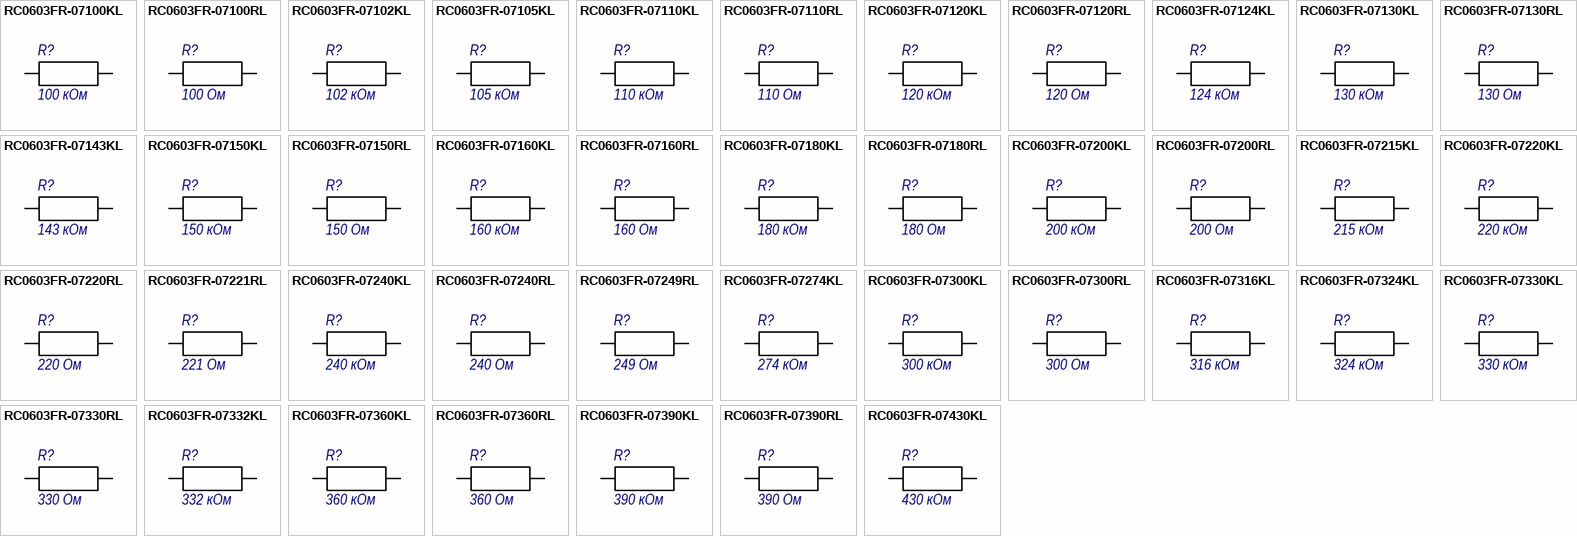
[diagram p9: symbols RC0603FR-07100KL to RC0603FR-07430KL]

## RC0603FR-07100KL
designator R?, comment 100 кОм
SMD 0603; 0,1; 1%; 100 кОм; Part Number: RC0603FR-07100KL; Manufacturer: Yageo; Power: 0,1; Package: SMD 0603; Persent: 1%; Value: 100 кОм; Category: R
footprint C0603R
pins: 1, 2

## RC0603FR-07100RL
designator R?, comment 100 Ом
SMD 0603; 0,1; 1%; 100 Ом; Part Number: RC0603FR-07100RL; Manufacturer: Yageo; Power: 0,1; Package: SMD 0603; Persent: 1%; Value: 100 Ом; Category: R
footprint C0603R
pins: 1, 2

## RC0603FR-07102KL
designator R?, comment 102 кОм
SMD 0603; 0,1; 1%; 102 кОм; Part Number: RC0603FR-07102KL; Manufacturer: Yageo; Power: 0,1; Package: SMD 0603; Persent: 1%; Value: 102 кОм; Category: R
footprint C0603R
pins: 1, 2

## RC0603FR-07105KL
designator R?, comment 105 кОм
SMD 0603; 0,1; 1%; 105 кОм; Part Number: RC0603FR-07105KL; Manufacturer: Yageo; Power: 0,1; Package: SMD 0603; Persent: 1%; Value: 105 кОм; Category: R
footprint C0603R
pins: 1, 2

## RC0603FR-07110KL
designator R?, comment 110 кОм
SMD 0603; 0,1; 1%; 110 кОм; Part Number: RC0603FR-07110KL; Manufacturer: Yageo; Power: 0,1; Package: SMD 0603; Persent: 1%; Value: 110 кОм; Category: R
footprint C0603R
pins: 1, 2

## RC0603FR-07110RL
designator R?, comment 110 Ом
SMD 0603; 0,1; 1%; 110 Ом; Part Number: RC0603FR-07110RL; Manufacturer: Yageo; Power: 0,1; Package: SMD 0603; Persent: 1%; Value: 110 Ом; Category: R
footprint C0603R
pins: 1, 2

## RC0603FR-07120KL
designator R?, comment 120 кОм
SMD 0603; 0,1; 1%; 120 кОм; Part Number: RC0603FR-07120KL; Manufacturer: Yageo; Power: 0,1; Package: SMD 0603; Persent: 1%; Value: 120 кОм; Category: R
footprint C0603R
pins: 1, 2

## RC0603FR-07120RL
designator R?, comment 120 Ом
SMD 0603; 0,1; 1%; 120 Ом; Part Number: RC0603FR-07120RL; Manufacturer: Yageo; Power: 0,1; Package: SMD 0603; Persent: 1%; Value: 120 Ом; Category: R
footprint C0603R
pins: 1, 2

## RC0603FR-07124KL
designator R?, comment 124 кОм
SMD 0603; 0,1; 1%; 124 кОм; Part Number: RC0603FR-07124KL; Manufacturer: Yageo; Power: 0,1; Package: SMD 0603; Persent: 1%; Value: 124 кОм; Category: R
footprint C0603R
pins: 1, 2

## RC0603FR-07130KL
designator R?, comment 130 кОм
SMD 0603; 0,1; 1%; 130 кОм; Part Number: RC0603FR-07130KL; Manufacturer: Yageo; Power: 0,1; Package: SMD 0603; Persent: 1%; Value: 130 кОм; Category: R
footprint C0603R
pins: 1, 2

## RC0603FR-07130RL
designator R?, comment 130 Ом
SMD 0603; 0,1; 1%; 130 Ом; Part Number: RC0603FR-07130RL; Manufacturer: Yageo; Power: 0,1; Package: SMD 0603; Persent: 1%; Value: 130 Ом; Category: R
footprint C0603R
pins: 1, 2

## RC0603FR-07143KL
designator R?, comment 143 кОм
SMD 0603; 0,1; 1%; 143 кОм; Part Number: RC0603FR-07143KL; Manufacturer: Yageo; Power: 0,1; Package: SMD 0603; Persent: 1%; Value: 143 кОм; Category: R
footprint C0603R
pins: 1, 2

## RC0603FR-07150KL
designator R?, comment 150 кОм
SMD 0603; 0,1; 1%; 150 кОм; Part Number: RC0603FR-07150KL; Manufacturer: Yageo; Power: 0,1; Package: SMD 0603; Persent: 1%; Value: 150 кОм; Category: R
footprint C0603R
pins: 1, 2

## RC0603FR-07150RL
designator R?, comment 150 Ом
SMD 0603; 0,1; 1%; 150 Ом; Part Number: RC0603FR-07150RL; Manufacturer: Yageo; Power: 0,1; Package: SMD 0603; Persent: 1%; Value: 150 Ом; Category: R
footprint C0603R
pins: 1, 2

## RC0603FR-07160KL
designator R?, comment 160 кОм
SMD 0603; 0,1; 1%; 160 кОм; Part Number: RC0603FR-07160KL; Manufacturer: Yageo; Power: 0,1; Package: SMD 0603; Persent: 1%; Value: 160 кОм; Category: R
footprint C0603R
pins: 1, 2

## RC0603FR-07160RL
designator R?, comment 160 Ом
SMD 0603; 0,1; 1%; 160 Ом; Part Number: RC0603FR-07160RL; Manufacturer: Yageo; Power: 0,1; Package: SMD 0603; Persent: 1%; Value: 160 Ом; Category: R
footprint C0603R
pins: 1, 2

## RC0603FR-07180KL
designator R?, comment 180 кОм
SMD 0603; 0,1; 1%; 180 кОм; Part Number: RC0603FR-07180KL; Manufacturer: Yageo; Power: 0,1; Package: SMD 0603; Persent: 1%; Value: 180 кОм; Category: R
footprint C0603R
pins: 1, 2

## RC0603FR-07180RL
designator R?, comment 180 Ом
SMD 0603; 0,1; 1%; 180 Ом; Part Number: RC0603FR-07180RL; Manufacturer: Yageo; Power: 0,1; Package: SMD 0603; Persent: 1%; Value: 180 Ом; Category: R
footprint C0603R
pins: 1, 2

## RC0603FR-07200KL
designator R?, comment 200 кОм
SMD 0603; 0,1; 1%; 200 кОм; Part Number: RC0603FR-07200KL; Manufacturer: Yageo; Power: 0,1; Package: SMD 0603; Persent: 1%; Value: 200 кОм; Category: R
footprint C0603R
pins: 1, 2

## RC0603FR-07200RL
designator R?, comment 200 Ом
SMD 0603; 0,1; 1%; 200 Ом; Part Number: RC0603FR-07200RL; Manufacturer: Yageo; Power: 0,1; Package: SMD 0603; Persent: 1%; Value: 200 Ом; Category: R
footprint C0603R
pins: 1, 2

## RC0603FR-07215KL
designator R?, comment 215 кОм
SMD 0603; 0,1; 1%; 215 кОм; Part Number: RC0603FR-07215KL; Manufacturer: Yageo; Power: 0,1; Package: SMD 0603; Persent: 1%; Value: 215 кОм; Category: R
footprint C0603R
pins: 1, 2

## RC0603FR-07220KL
designator R?, comment 220 кОм
SMD 0603; 0,1; 1%; 220 кОм; Part Number: RC0603FR-07220KL; Manufacturer: Yageo; Power: 0,1; Package: SMD 0603; Persent: 1%; Value: 220 кОм; Category: R
footprint C0603R
pins: 1, 2

## RC0603FR-07220RL
designator R?, comment 220 Ом
SMD 0603; 0,1; 1%; 220 Ом; Part Number: RC0603FR-07220RL; Manufacturer: Yageo; Power: 0,1; Package: SMD 0603; Persent: 1%; Value: 220 Ом; Category: R
footprint C0603R
pins: 1, 2

## RC0603FR-07221RL
designator R?, comment 221 Ом
SMD 0603; 0,1; 1%; 221 Ом; Part Number: RC0603FR-07221RL; Manufacturer: Yageo; Power: 0,1; Package: SMD 0603; Persent: 1%; Value: 221 Ом; Category: R
footprint C0603R
pins: 1, 2

## RC0603FR-07240KL
designator R?, comment 240 кОм
SMD 0603; 0,1; 1%; 240 кОм; Part Number: RC0603FR-07240KL; Manufacturer: Yageo; Power: 0,1; Package: SMD 0603; Persent: 1%; Value: 240 кОм; Category: R
footprint C0603R
pins: 1, 2

## RC0603FR-07240RL
designator R?, comment 240 Ом
SMD 0603; 0,1; 1%; 240 Ом; Part Number: RC0603FR-07240RL; Manufacturer: Yageo; Power: 0,1; Package: SMD 0603; Persent: 1%; Value: 240 Ом; Category: R
footprint C0603R
pins: 1, 2

## RC0603FR-07249RL
designator R?, comment 249 Ом
SMD 0603; 0,1; 1%; 249 Ом; Part Number: RC0603FR-07249RL; Manufacturer: Yageo; Power: 0,1; Package: SMD 0603; Persent: 1%; Value: 249 Ом; Category: R
footprint C0603R
pins: 1, 2

## RC0603FR-07274KL
designator R?, comment 274 кОм
SMD 0603; 0,1; 1%; 274 кОм; Part Number: RC0603FR-07274KL; Manufacturer: Yageo; Power: 0,1; Package: SMD 0603; Persent: 1%; Value: 274 кОм; Category: R
footprint C0603R
pins: 1, 2

## RC0603FR-07300KL
designator R?, comment 300 кОм
SMD 0603; 0,1; 1%; 300 кОм; Part Number: RC0603FR-07300KL; Manufacturer: Yageo; Power: 0,1; Package: SMD 0603; Persent: 1%; Value: 300 кОм; Category: R
footprint C0603R
pins: 1, 2

## RC0603FR-07300RL
designator R?, comment 300 Ом
SMD 0603; 0,1; 1%; 300 Ом; Part Number: RC0603FR-07300RL; Manufacturer: Yageo; Power: 0,1; Package: SMD 0603; Persent: 1%; Value: 300 Ом; Category: R
footprint C0603R
pins: 1, 2

## RC0603FR-07316KL
designator R?, comment 316 кОм
SMD 0603; 0,1; 1%; 316 кОм; Part Number: RC0603FR-07316KL; Manufacturer: Yageo; Power: 0,1; Package: SMD 0603; Persent: 1%; Value: 316 кОм; Category: R
footprint C0603R
pins: 1, 2

## RC0603FR-07324KL
designator R?, comment 324 кОм
SMD 0603; 0,1; 1%; 324 кОм; Part Number: RC0603FR-07324KL; Manufacturer: Yageo; Power: 0,1; Package: SMD 0603; Persent: 1%; Value: 324 кОм; Category: R
footprint C0603R
pins: 1, 2

## RC0603FR-07330KL
designator R?, comment 330 кОм
SMD 0603; 0,1; 1%; 330 кОм; Part Number: RC0603FR-07330KL; Manufacturer: Yageo; Power: 0,1; Package: SMD 0603; Persent: 1%; Value: 330 кОм; Category: R
footprint C0603R
pins: 1, 2

## RC0603FR-07330RL
designator R?, comment 330 Ом
SMD 0603; 0,1; 1%; 330 Ом; Part Number: RC0603FR-07330RL; Manufacturer: Yageo; Power: 0,1; Package: SMD 0603; Persent: 1%; Value: 330 Ом; Category: R
footprint C0603R
pins: 1, 2

## RC0603FR-07332KL
designator R?, comment 332 кОм
SMD 0603; 0,1; 1%; 332 кОм; Part Number: RC0603FR-07332KL; Manufacturer: Yageo; Power: 0,1; Package: SMD 0603; Persent: 1%; Value: 332 кОм; Category: R
footprint C0603R
pins: 1, 2

## RC0603FR-07360KL
designator R?, comment 360 кОм
SMD 0603; 0,1; 1%; 360 кОм; Part Number: RC0603FR-07360KL; Manufacturer: Yageo; Power: 0,1; Package: SMD 0603; Persent: 1%; Value: 360 кОм; Category: R
footprint C0603R
pins: 1, 2

## RC0603FR-07360RL
designator R?, comment 360 Ом
SMD 0603; 0,1; 1%; 360 Ом; Part Number: RC0603FR-07360RL; Manufacturer: Yageo; Power: 0,1; Package: SMD 0603; Persent: 1%; Value: 360 Ом; Category: R
footprint C0603R
pins: 1, 2

## RC0603FR-07390KL
designator R?, comment 390 кОм
SMD 0603; 0,1; 1%; 390 кОм; Part Number: RC0603FR-07390KL; Manufacturer: Yageo; Power: 0,1; Package: SMD 0603; Persent: 1%; Value: 390 кОм; Category: R
footprint C0603R
pins: 1, 2

## RC0603FR-07390RL
designator R?, comment 390 Ом
SMD 0603; 0,1; 1%; 390 Ом; Part Number: RC0603FR-07390RL; Manufacturer: Yageo; Power: 0,1; Package: SMD 0603; Persent: 1%; Value: 390 Ом; Category: R
footprint C0603R
pins: 1, 2

## RC0603FR-07430KL
designator R?, comment 430 кОм
SMD 0603; 0,1; 1%; 430 кОм; Part Number: RC0603FR-07430KL; Manufacturer: Yageo; Power: 0,1; Package: SMD 0603; Persent: 1%; Value: 430 кОм; Category: R
footprint C0603R
pins: 1, 2

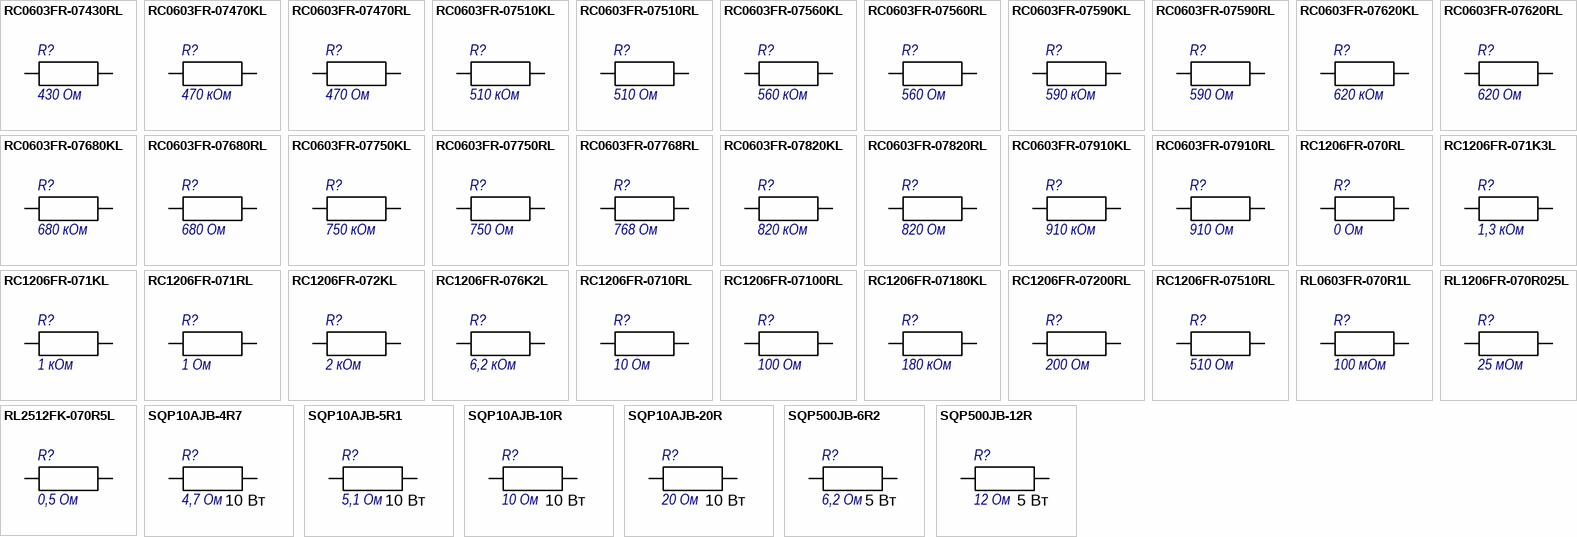
[diagram p10: symbols RC0603FR-07430RL to SQP500JB-12R]

## RC0603FR-07430RL
designator R?, comment 430 Ом
SMD 0603; 0,1; 1%; 430 Ом; Part Number: RC0603FR-07430RL; Manufacturer: Yageo; Power: 0,1; Package: SMD 0603; Persent: 1%; Value: 430 Ом; Category: R
footprint C0603R
pins: 1, 2

## RC0603FR-07470KL
designator R?, comment 470 кОм
SMD 0603; 0,1; 1%; 470 кОм; Part Number: RC0603FR-07470KL; Manufacturer: Yageo; Power: 0,1; Package: SMD 0603; Persent: 1%; Value: 470 кОм; Category: R
footprint C0603R
pins: 1, 2

## RC0603FR-07470RL
designator R?, comment 470 Ом
SMD 0603; 0,1; 1%; 470 Ом; Part Number: RC0603FR-07470RL; Manufacturer: Yageo; Power: 0,1; Package: SMD 0603; Persent: 1%; Value: 470 Ом; Category: R
footprint C0603R
pins: 1, 2

## RC0603FR-07510KL
designator R?, comment 510 кОм
SMD 0603; 0,1; 1%; 510 кОм; Part Number: RC0603FR-07510KL; Manufacturer: Yageo; Power: 0,1; Package: SMD 0603; Persent: 1%; Value: 510 кОм; Category: R
footprint C0603R
pins: 1, 2

## RC0603FR-07510RL
designator R?, comment 510 Ом
SMD 0603; 0,1; 1%; 510 Ом; Part Number: RC0603FR-07510RL; Manufacturer: Yageo; Power: 0,1; Package: SMD 0603; Persent: 1%; Value: 510 Ом; Category: R
footprint C0603R
pins: 1, 2

## RC0603FR-07560KL
designator R?, comment 560 кОм
SMD 0603; 0,1; 1%; 560 кОм; Part Number: RC0603FR-07560KL; Manufacturer: Yageo; Power: 0,1; Package: SMD 0603; Persent: 1%; Value: 560 кОм; Category: R
footprint C0603R
pins: 1, 2

## RC0603FR-07560RL
designator R?, comment 560 Ом
SMD 0603; 0,1; 1%; 560 Ом; Part Number: RC0603FR-07560RL; Manufacturer: Yageo; Power: 0,1; Package: SMD 0603; Persent: 1%; Value: 560 Ом; Category: R
footprint C0603R
pins: 1, 2

## RC0603FR-07590KL
designator R?, comment 590 кОм
SMD 0603; 0,1; 1%; 590 кОм; Part Number: RC0603FR-07590KL; Manufacturer: Yageo; Power: 0,1; Package: SMD 0603; Persent: 1%; Value: 590 кОм; Category: R
footprint C0603R
pins: 1, 2

## RC0603FR-07590RL
designator R?, comment 590 Ом
SMD 0603; 0,1; 1%; 590 Ом; Part Number: RC0603FR-07590RL; Manufacturer: Yageo; Power: 0,1; Package: SMD 0603; Persent: 1%; Value: 590 Ом; Category: R
footprint C0603R
pins: 1, 2

## RC0603FR-07620KL
designator R?, comment 620 кОм
SMD 0603; 0,1; 1%; 620 кОм; Part Number: RC0603FR-07620KL; Manufacturer: Yageo; Power: 0,1; Package: SMD 0603; Persent: 1%; Value: 620 кОм; Category: R
footprint C0603R
pins: 1, 2

## RC0603FR-07620RL
designator R?, comment 620 Ом
SMD 0603; 0,1; 1%; 620 Ом; Part Number: RC0603FR-07620RL; Manufacturer: Yageo; Power: 0,1; Package: SMD 0603; Persent: 1%; Value: 620 Ом; Category: R
footprint C0603R
pins: 1, 2

## RC0603FR-07680KL
designator R?, comment 680 кОм
SMD 0603; 0,1; 1%; 680 кОм; Part Number: RC0603FR-07680KL; Manufacturer: Yageo; Power: 0,1; Package: SMD 0603; Persent: 1%; Value: 680 кОм; Category: R
footprint C0603R
pins: 1, 2

## RC0603FR-07680RL
designator R?, comment 680 Ом
SMD 0603; 0,1; 1%; 680 Ом; Part Number: RC0603FR-07680RL; Manufacturer: Yageo; Power: 0,1; Package: SMD 0603; Persent: 1%; Value: 680 Ом; Category: R
footprint C0603R
pins: 1, 2

## RC0603FR-07750KL
designator R?, comment 750 кОм
SMD 0603; 0,1; 1%; 750 кОм; Part Number: RC0603FR-07750KL; Manufacturer: Yageo; Power: 0,1; Package: SMD 0603; Persent: 1%; Value: 750 кОм; Category: R
footprint C0603R
pins: 1, 2

## RC0603FR-07750RL
designator R?, comment 750 Ом
SMD 0603; 0,1; 1%; 750 Ом; Part Number: RC0603FR-07750RL; Manufacturer: Yageo; Power: 0,1; Package: SMD 0603; Persent: 1%; Value: 750 Ом; Category: R
footprint C0603R
pins: 1, 2

## RC0603FR-07768RL
designator R?, comment 768 Ом
SMD 0603; 0,1; 1%; 768 Ом; Part Number: RC0603FR-07768RL; Manufacturer: Yageo; Power: 0,1; Package: SMD 0603; Persent: 1%; Value: 768 Ом; Category: R
footprint C0603R
pins: 1, 2

## RC0603FR-07820KL
designator R?, comment 820 кОм
SMD 0603; 0,1; 1%; 820 кОм; Part Number: RC0603FR-07820KL; Manufacturer: Yageo; Power: 0,1; Package: SMD 0603; Persent: 1%; Value: 820 кОм; Category: R
footprint C0603R
pins: 1, 2

## RC0603FR-07820RL
designator R?, comment 820 Ом
SMD 0603; 0,1; 1%; 820 Ом; Part Number: RC0603FR-07820RL; Manufacturer: Yageo; Power: 0,1; Package: SMD 0603; Persent: 1%; Value: 820 Ом; Category: R
footprint C0603R
pins: 1, 2

## RC0603FR-07910KL
designator R?, comment 910 кОм
SMD 0603; 0,1; 1%; 910 кОм; Part Number: RC0603FR-07910KL; Manufacturer: Yageo; Power: 0,1; Package: SMD 0603; Persent: 1%; Value: 910 кОм; Category: R
footprint C0603R
pins: 1, 2

## RC0603FR-07910RL
designator R?, comment 910 Ом
SMD 0603; 0,1; 1%; 910 Ом; Part Number: RC0603FR-07910RL; Manufacturer: Yageo; Power: 0,1; Package: SMD 0603; Persent: 1%; Value: 910 Ом; Category: R
footprint C0603R
pins: 1, 2

## RC1206FR-070RL
designator R?, comment 0 Ом
SMD 1206; 0,25; 1%; 0 Ом; Part Number: RC1206FR-070RL; Manufacturer: Yageo; Power: 0,25; Package: SMD 1206; Persent: 1%; Value: 0 Ом; Category: R
footprint C1206R
pins: 1, 2

## RC1206FR-071K3L
designator R?, comment 1,3 кОм
SMD 1206; 0,25; 1%; 1,3 кОм; Part Number: RC1206FR-071K3L; Manufacturer: Yageo; Power: 0,25; Package: SMD 1206; Persent: 1%; Value: 1,3 кОм; Category: R
footprint C1206R
pins: 1, 2

## RC1206FR-071KL
designator R?, comment 1 кОм
SMD 1206; 0,25; 1%; 1 кОм; Part Number: RC1206FR-071KL; Manufacturer: Yageo; Power: 0,25; Package: SMD 1206; Persent: 1%; Value: 1 кОм; Category: R
footprint C1206R
pins: 1, 2

## RC1206FR-071RL
designator R?, comment 1 Ом
SMD 1206; 0,25; 1%; 1 Ом; Part Number: RC1206FR-071RL; Manufacturer: Yageo; Power: 0,25; Package: SMD 1206; Persent: 1%; Value: 1 Ом; Category: R
footprint C1206R
pins: 1, 2

## RC1206FR-072KL
designator R?, comment 2 кОм
SMD 1206; 0,25; 1%; 2 кОм; Part Number: RC1206FR-072KL; Manufacturer: Yageo; Power: 0,25; Package: SMD 1206; Persent: 1%; Value: 2 кОм; Category: R
footprint C1206R
pins: 1, 2

## RC1206FR-076K2L
designator R?, comment 6,2 кОм
SMD 1206; 0,25; 1%; 6,2 кОм; Part Number: RC1206FR-076K2L; Manufacturer: Yageo; Power: 0,25; Package: SMD 1206; Persent: 1%; Value: 6,2 кОм; Category: R
footprint C1206R
pins: 1, 2

## RC1206FR-0710RL
designator R?, comment 10 Ом
SMD 1206; 0,25; 1%; 10 Ом; Part Number: RC1206FR-0710RL; Manufacturer: Yageo; Power: 0,25; Package: SMD 1206; Persent: 1%; Value: 10 Ом; Category: R
footprint C1206R
pins: 1, 2